# Altium footprint library PIFWRoBot.PcbLib: 9 footprints
Each footprint in its own frame and in the unit in brackets; x right, y up, seen from the top. Pads: shape width x height; smd on the part's side, far side on the other; paste and mask are expansions set on the pad; w line width, h text height; cw(c..) or ccw(c..) is an arc to the next point about the centre after c.
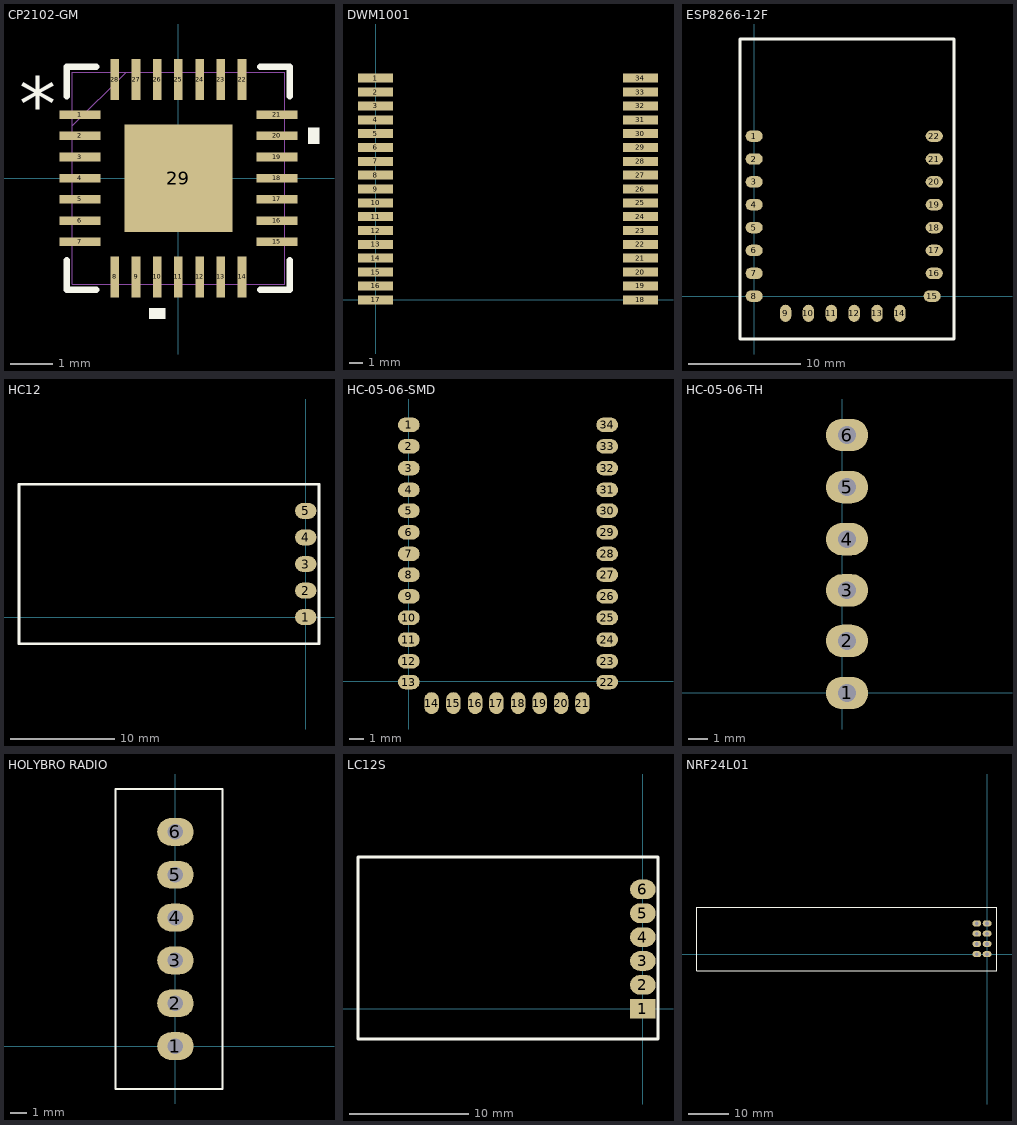
[diagram p0: the footprints below, top view; thin cyan lines are the x and y axes]

## CP2102-GM [mil]
pads (29):
  rect 38x8 smd paste+0 mask+0: 1(-91.5,59.06) 2(-91.5,39.37) 3(-91.5,19.68) 4(-91.5,0) 5(-91.5,-19.68) 6(-91.5,-39.37) 7(-91.5,-59.06) 15(91.5,-59.06) 16(91.5,-39.37) 17(91.5,-19.68) 18(91.5,0) 19(91.5,19.68) 20(91.5,39.37) 21(91.5,59.06)
  rect 8x38 smd paste+0 mask+0: 8(-59.06,-91.5) 9(-39.37,-91.5) 10(-19.68,-91.5) 11(0,-91.5) 12(19.68,-91.5) 13(39.37,-91.5) 14(59.06,-91.5) 22(59.06,91.5) 23(39.37,91.5) 24(19.68,91.5) 25(0,91.5) 26(-19.68,91.5) 27(-39.37,91.5) 28(-59.06,91.5)
  rect 100x100 smd paste-65.5 mask+0: 29(0,0)
Top Overlay:
  region: -12.19,-120.5 -27.18,-120.5 -27.18,-130.5 -12.19,-130.5
  region: 120.5,46.87 130.5,46.87 130.5,31.87 120.5,31.87
  lines w6: -103.5,-76.16 -103.5,-103.5 -76.16,-103.5 ; -103.5,76.16 -103.5,103.5 -76.16,103.5 ; 76.16,-103.5 103.5,-103.5 103.5,-76.16 ; 76.16,103.5 103.5,103.5 103.5,76.16
  text "*" at -148,43.9 h50
Top Paste:
  region: -3.94,50 -50,50 -50,3.94 -3.94,3.94
  region: -3.94,-3.94 -50,-3.94 -50,-50 -3.94,-50
  region: 50,50 3.94,50 3.94,3.94 50,3.94
  region: 50,-3.94 3.94,-3.94 3.94,-50 50,-50
Mechanical 13:
  lines w1: -98.5,48.5 -48.5,98.5 ; -98.5,-98.5 98.5,-98.5 98.5,98.5 -98.5,98.5 -98.5,-98.5 ; -98.5,-65.06 -98.5,-53.06 -98.5,-65.06 ; -98.5,-45.37 -98.5,-33.37 -98.5,-45.37 ; -98.5,-25.68 -98.5,-13.69 -98.5,-25.68 ; -98.5,-6 -98.5,6 -98.5,-6 ; -98.5,13.69 -98.5,25.68 -98.5,13.69 ; -98.5,33.37 -98.5,45.37 -98.5,33.37 ; -98.5,53.06 -98.5,65.06 -98.5,53.06 ; -65.06,-98.5 -53.06,-98.5 -65.06,-98.5 ; -65.06,98.5 -53.06,98.5 -65.06,98.5 ; -45.37,-98.5 -33.37,-98.5 -45.37,-98.5 ; -45.37,98.5 -33.37,98.5 -45.37,98.5 ; -25.68,-98.5 -13.69,-98.5 -25.68,-98.5 ; -25.68,98.5 -13.69,98.5 -25.68,98.5 ; -6,-98.5 6,-98.5 -6,-98.5 ; -6,98.5 6,98.5 -6,98.5 ; 13.69,-98.5 25.68,-98.5 13.69,-98.5 ; 13.69,98.5 25.68,98.5 13.69,98.5 ; 33.37,-98.5 45.37,-98.5 33.37,-98.5 ; 33.37,98.5 45.37,98.5 33.37,98.5 ; 53.06,-98.5 65.06,-98.5 53.06,-98.5 ; 53.06,98.5 65.06,98.5 53.06,98.5 ; 98.5,-65.06 98.5,-53.06 98.5,-65.06 ; 98.5,-45.37 98.5,-33.37 98.5,-45.37 ; 98.5,-25.68 98.5,-13.69 98.5,-25.68 ; 98.5,-6 98.5,6 98.5,-6 ; 98.5,13.69 98.5,25.68 98.5,13.69 ; 98.5,33.37 98.5,45.37 98.5,33.37 ; 98.5,53.06 98.5,65.06 98.5,53.06
  text "*" at -85,43.9 h50
3D body: height 10, standoff 0, extent 0,0 10,10
3D body "QFN28_5X5_SIL.step": height 37.09, standoff 0, extent -98.49,-98.5 98.51,98.51

## DWM1001 [mm]
pads (34):
  rect 2.54x0.65 smd: 1(0,16) 2(0,15) 3(0,14) 4(0,13) 5(0,12) 6(0,11) 7(0,10) 8(0,9) 9(0,8) 10(0,7) 11(0,6) 12(0,5) 13(0,4) 14(0,3) 15(0,2) 16(0,1) 17(0,0) 18(19.13,0) 19(19.13,1) 20(19.13,2) 21(19.13,3) 22(19.13,4) 23(19.13,5) 24(19.13,6) 25(19.13,7) 26(19.13,8) 27(19.13,9) 28(19.13,10) 29(19.13,11) 30(19.13,12) 31(19.13,13) 32(19.13,14) 33(19.13,15) 34(19.13,16)
3D body "dwm1001 v2.step": height 3.2, standoff 0, extent -0.014,-1.15 19.116,24.97

## ESP8266-12F [mil]
pads (22):
  oval 60x40 smd: 1(0,560) 2(0,480) 3(0,400) 4(0,320) 5(0,240) 6(0,160) 7(0,80) 8(0,0) 15(623,0) 16(630.32,80) 17(630.32,160) 18(630.32,240) 19(630.32,320) 20(630.32,400) 21(630.32,480) 22(630.32,560)
  oval 40x60 smd: 9(110,-60) 10(190,-60) 11(270,-60) 12(350,-60) 13(430,-60) 14(510,-60)
Top Overlay:
  lines w10: -50,-150 700,-150 700,900 -50,900 -50,-150
3D body "EPS8266 ESP-12F_1.STEP": height 104.33, standoff -1.38, extent -8.16,-53.63 622.16,891.45

## HC12 [mil]
pads (5):
  oval 80x60 smd: 1(0,0) 2(0,100) 3(0,200) 4(0,300) 5(0,400)
Top Overlay:
  lines w10: -1080,-100 -1080,500 -1050,500 -1019.68,500 50,500 50,-100 -1050,-100 -1080,-100
3D body "HC-12 SI4463 WIRELESS SERIAL MODULE.STEP": height 1019.68, standoff 0, extent -1059.11,-61.81 31.34,461.81

## HC-05-06-SMD [mil]
pads (34):
  oval 60x40 smd: 1(0,706) 2(0,647) 3(0,587) 4(0,527) 5(0,470) 6(0,410) 7(0,351) 8(0,293.5) 9(0,234) 10(0,175) 11(0,115) 12(0,55) 13(0,-2) 22(545.98,-2) 23(545.98,55) 24(545.98,115) 25(545.98,175) 26(545.98,234) 27(545.98,293.5) 28(545.98,351) 29(545.98,410) 30(545.98,470) 31(545.98,527) 32(545.98,587) 33(545.98,647) 34(545.98,706)
  oval 40x60 smd: 14(62.5,-60) 15(122.5,-60) 16(182.5,-60) 17(241,-60) 18(301,-60) 19(360,-60) 20(419,-60) 21(478,-60)
3D body "Bluetooth HC-06_.STEP": height 92.52, standoff 0, extent -5.98,-72 545.98,1030.75

## HC-05-06-TH [mil]
pads (6):
  oval 85x65 hole 36: 1(10,0) 2(10,105) 3(10,207) 4(10,310) 5(10,415) 6(10,520)
3D body "HC-05.STEP": height 1528.35, standoff -148.16, extent -238,-53.96 19.87,575.96

## HOLYBRO RADIO [mil]
pads (6):
  oval 85x65 hole 36: 1(0,0) 2(0,100) 3(0,200) 4(0,300) 5(0,400) 6(0,500)
Top Overlay:
  lines w5: -140,-100 -140,600 -130,600 100,600 110,600 110,-100 -140,-100
3D body "JST - XH - Thru (V) - 6Pin - 2.54mm.stp": height 284, standoff -118, extent -130,-92 100,592

## LC12S [mil]
pads (6):
  rect 85x65 smd paste+0: 1(0,0)
  oval 85x65 smd: 2(0,78.74) 3(0,157.48) 4(0,236.22) 5(0,314.96) 6(0,393.7)
Top Overlay:
  lines w10: -940,-100 -940,500 -917.32,500 50,500 50,-100 -940,-100
Mechanical 1:
  pour cut-out: -940,560
3D body: height 78.74, standoff 0, extent 60,0 60,0
3D body: height 78.74, standoff 0, extent 60,0 60,0
3D body "LC12S.STEP": height 78.74, standoff 0, extent -917.32,-65 0,474.37

## NRF24L01 [mil]
pads (8):
  oval 86x60 hole 36: 1(0,0) 2(-100,0) 3(0,100) 4(-100,100) 5(0,200) 6(-100,200) 7(0,300) 8(-100,300)
Top Overlay:
  lines w5: -2833,-162 97,-162 97,458 -2823,458 -2833,458 -2833,-162
3D body "NRF24l01_with_antenna.STEP": height 3660.96, standoff -224.41, extent -2828.3,-152.19 85.09,448.21